# Altium schematic symbol library HANDS-FREEE-PcbLib-V1.11.SchLib: 137 symbols (part 2 of 2)
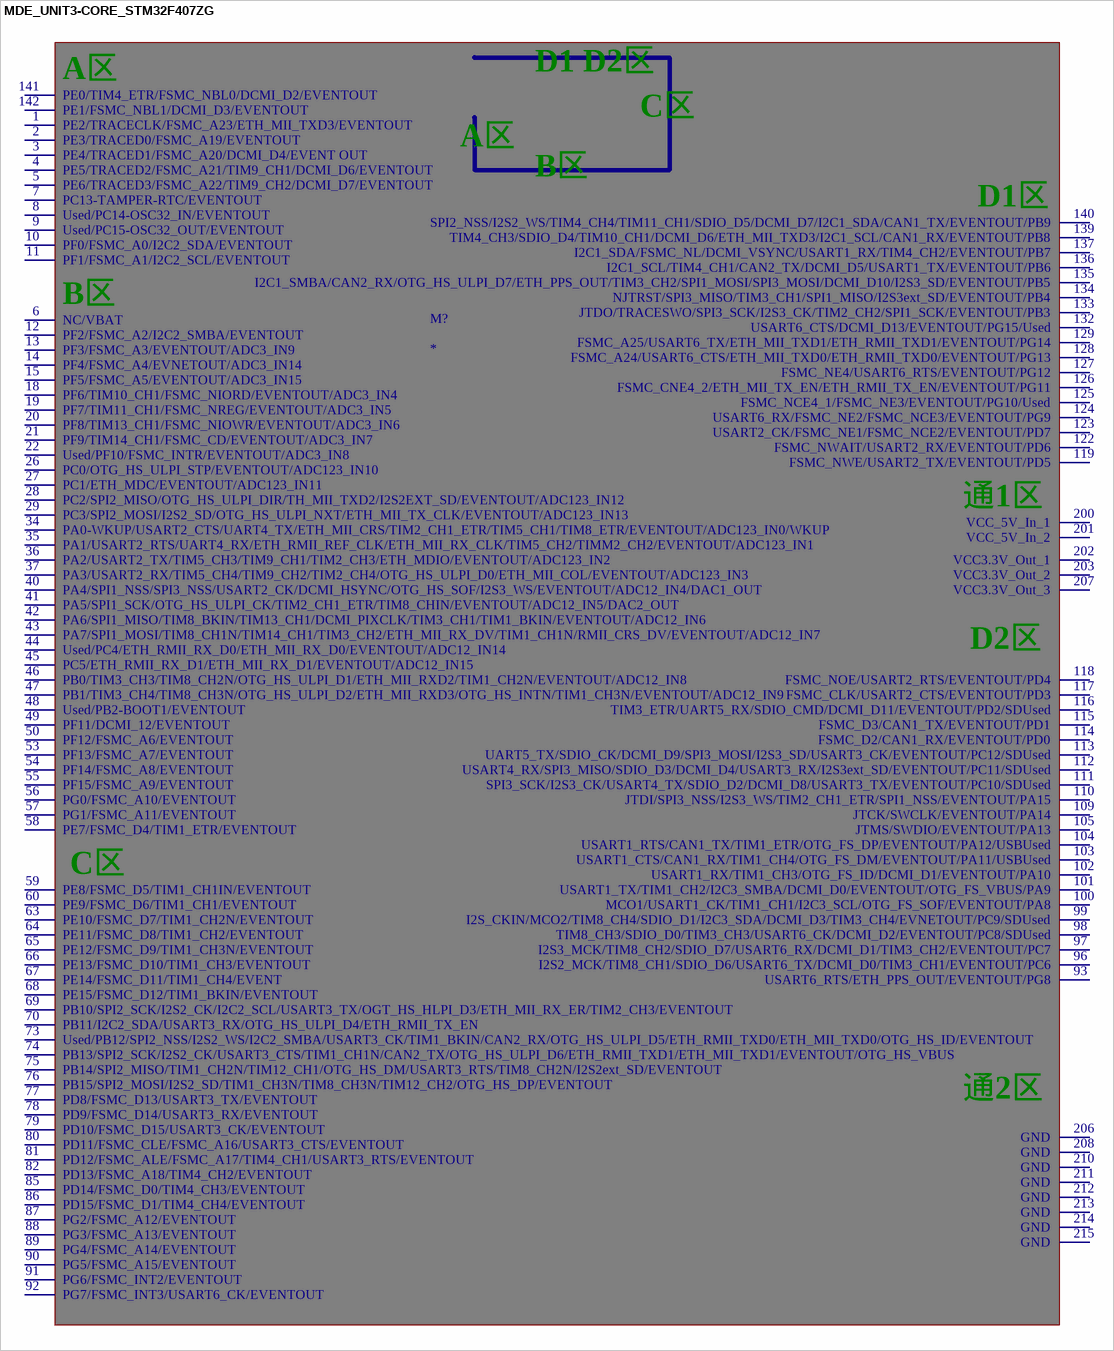
[diagram p8: symbol MDE_UNIT3-CORE_STM32F407ZG]

## MDE_UNIT3-CORE_STM32F407ZG
designator M?
直插型 核心板模块 由三个排母座组成
footprint MDE_UNIT3-CORE_STM32F407ZG
pins: 1 PE2/TRACECLK/FSMC_A23/ETH_MII_TXD3/EVENTOUT, 2 PE3/TRACED0/FSMC_A19/EVENTOUT, 3 PE4/TRACED1/FSMC_A20/DCMI_D4/EVENT OUT, 4 PE5/TRACED2/FSMC_A21/TIM9_CH1/DCMI_D6/EVENTOUT, 5 PE6/TRACED3/FSMC_A22/TIM9_CH2/DCMI_D7/EVENTOUT, 6 NC/VBAT, 7 PC13-TAMPER-RTC/EVENTOUT, 8 Used/PC14-OSC32_IN/EVENTOUT, 9 Used/PC15-OSC32_OUT/EVENTOUT, 10 PF0/FSMC_A0/I2C2_SDA/EVENTOUT, 11 PF1/FSMC_A1/I2C2_SCL/EVENTOUT, 12 PF2/FSMC_A2/I2C2_SMBA/EVENTOUT, 13 PF3/FSMC_A3/EVENTOUT/ADC3_IN9, 14 PF4/FSMC_A4/EVNETOUT/ADC3_IN14, 15 PF5/FSMC_A5/EVENTOUT/ADC3_IN15, 18 PF6/TIM10_CH1/FSMC_NIORD/EVENTOUT/ADC3_IN4, 19 PF7/TIM11_CH1/FSMC_NREG/EVENTOUT/ADC3_IN5, 20 PF8/TIM13_CH1/FSMC_NIOWR/EVENTOUT/ADC3_IN6, 21 PF9/TIM14_CH1/FSMC_CD/EVENTOUT/ADC3_IN7, 22 Used/PF10/FSMC_INTR/EVENTOUT/ADC3_IN8, 26 PC0/OTG_HS_ULPI_STP/EVENTOUT/ADC123_IN10, 27 PC1/ETH_MDC/EVENTOUT/ADC123_IN11, 28 PC2/SPI2_MISO/OTG_HS_ULPI_DIR/TH_MII_TXD2/I2S2EXT_SD/EVENTOUT/ADC123_IN12, 29 PC3/SPI2_MOSI/I2S2_SD/OTG_HS_ULPI_NXT/ETH_MII_TX_CLK/EVENTOUT/ADC123_IN13, 34 PA0-WKUP/USART2_CTS/UART4_TX/ETH_MII_CRS/TIM2_CH1_ETR/TIM5_CH1/TIM8_ETR/EVENTOUT/ADC123_IN0/WKUP, 35 PA1/USART2_RTS/UART4_RX/ETH_RMII_REF_CLK/ETH_MII_RX_CLK/TIM5_CH2/TIMM2_CH2/EVENTOUT/ADC123_IN1, 36 PA2/USART2_TX/TIM5_CH3/TIM9_CH1/TIM2_CH3/ETH_MDIO/EVENTOUT/ADC123_IN2, 37 PA3/USART2_RX/TIM5_CH4/TIM9_CH2/TIM2_CH4/OTG_HS_ULPI_D0/ETH_MII_COL/EVENTOUT/ADC123_IN3, 40 PA4/SPI1_NSS/SPI3_NSS/USART2_CK/DCMI_HSYNC/OTG_HS_SOF/I2S3_WS/EVENTOUT/ADC12_IN4/DAC1_OUT, 41 PA5/SPI1_SCK/OTG_HS_ULPI_CK/TIM2_CH1_ETR/TIM8_CHIN/EVENTOUT/ADC12_IN5/DAC2_OUT, 42 PA6/SPI1_MISO/TIM8_BKIN/TIM13_CH1/DCMI_PIXCLK/TIM3_CH1/TIM1_BKIN/EVENTOUT/ADC12_IN6, 43 PA7/SPI1_MOSI/TIM8_CH1N/TIM14_CH1/TIM3_CH2/ETH_MII_RX_DV/TIM1_CH1N/RMII_CRS_DV/EVENTOUT/ADC12_IN7, 44 Used/PC4/ETH_RMII_RX_D0/ETH_MII_RX_D0/EVENTOUT/ADC12_IN14, 45 PC5/ETH_RMII_RX_D1/ETH_MII_RX_D1/EVENTOUT/ADC12_IN15, 46 PB0/TIM3_CH3/TIM8_CH2N/OTG_HS_ULPI_D1/ETH_MII_RXD2/TIM1_CH2N/EVENTOUT/ADC12_IN8, 47 PB1/TIM3_CH4/TIM8_CH3N/OTG_HS_ULPI_D2/ETH_MII_RXD3/OTG_HS_INTN/TIM1_CH3N/EVENTOUT/ADC12_IN9, 48 Used/PB2-BOOT1/EVENTOUT, 49 PF11/DCMI_12/EVENTOUT, 50 PF12/FSMC_A6/EVENTOUT, 53 PF13/FSMC_A7/EVENTOUT, 54 PF14/FSMC_A8/EVENTOUT, 55 PF15/FSMC_A9/EVENTOUT, 56 PG0/FSMC_A10/EVENTOUT, 57 PG1/FSMC_A11/EVENTOUT, 58 PE7/FSMC_D4/TIM1_ETR/EVENTOUT, 59 PE8/FSMC_D5/TIM1_CH1IN/EVENTOUT, 60 PE9/FSMC_D6/TIM1_CH1/EVENTOUT, 63 PE10/FSMC_D7/TIM1_CH2N/EVENTOUT, 64 PE11/FSMC_D8/TIM1_CH2/EVENTOUT, 65 PE12/FSMC_D9/TIM1_CH3N/EVENTOUT, 66 PE13/FSMC_D10/TIM1_CH3/EVENTOUT, 67 PE14/FSMC_D11/TIM1_CH4/EVENT, 68 PE15/FSMC_D12/TIM1_BKIN/EVENTOUT, 69 PB10/SPI2_SCK/I2S2_CK/I2C2_SCL/USART3_TX/OGT_HS_HLPI_D3/ETH_MII_RX_ER/TIM2_CH3/EVENTOUT, 70 PB11/I2C2_SDA/USART3_RX/OTG_HS_ULPI_D4/ETH_RMII_TX_EN, 73 Used/PB12/SPI2_NSS/I2S2_WS/I2C2_SMBA/USART3_CK/TIM1_BKIN/CAN2_RX/OTG_HS_ULPI_D5/ETH_RMII_TXD0/ETH_MII_TXD0/OTG_HS_ID/EVENTOUT, 74 PB13/SPI2_SCK/I2S2_CK/USART3_CTS/TIM1_CH1N/CAN2_TX/OTG_HS_ULPI_D6/ETH_RMII_TXD1/ETH_MII_TXD1/EVENTOUT/OTG_HS_VBUS, 75 PB14/SPI2_MISO/TIM1_CH2N/TIM12_CH1/OTG_HS_DM/USART3_RTS/TIM8_CH2N/I2S2ext_SD/EVENTOUT, 76 PB15/SPI2_MOSI/I2S2_SD/TIM1_CH3N/TIM8_CH3N/TIM12_CH2/OTG_HS_DP/EVENTOUT, 77 PD8/FSMC_D13/USART3_TX/EVENTOUT, 78 PD9/FSMC_D14/USART3_RX/EVENTOUT, 79 PD10/FSMC_D15/USART3_CK/EVENTOUT, 80 PD11/FSMC_CLE/FSMC_A16/USART3_CTS/EVENTOUT, 81 PD12/FSMC_ALE/FSMC_A17/TIM4_CH1/USART3_RTS/EVENTOUT, 82 PD13/FSMC_A18/TIM4_CH2/EVENTOUT, 85 PD14/FSMC_D0/TIM4_CH3/EVENTOUT, 86 PD15/FSMC_D1/TIM4_CH4/EVENTOUT, 87 PG2/FSMC_A12/EVENTOUT, 88 PG3/FSMC_A13/EVENTOUT, 89 PG4/FSMC_A14/EVENTOUT, 90 PG5/FSMC_A15/EVENTOUT, 91 PG6/FSMC_INT2/EVENTOUT, 92 PG7/FSMC_INT3/USART6_CK/EVENTOUT, 93 USART6_RTS/ETH_PPS_OUT/EVENTOUT/PG8, 96 I2S2_MCK/TIM8_CH1/SDIO_D6/USART6_TX/DCMI_D0/TIM3_CH1/EVENTOUT/PC6, 97 I2S3_MCK/TIM8_CH2/SDIO_D7/USART6_RX/DCMI_D1/TIM3_CH2/EVENTOUT/PC7, 98 TIM8_CH3/SDIO_D0/TIM3_CH3/USART6_CK/DCMI_D2/EVENTOUT/PC8/SDUsed, 99 I2S_CKIN/MCO2/TIM8_CH4/SDIO_D1/I2C3_SDA/DCMI_D3/TIM3_CH4/EVNETOUT/PC9/SDUsed, 100 MCO1/USART1_CK/TIM1_CH1/I2C3_SCL/OTG_FS_SOF/EVENTOUT/PA8, 101 USART1_TX/TIM1_CH2/I2C3_SMBA/DCMI_D0/EVENTOUT/OTG_FS_VBUS/PA9, 102 USART1_RX/TIM1_CH3/OTG_FS_ID/DCMI_D1/EVENTOUT/PA10, 103 USART1_CTS/CAN1_RX/TIM1_CH4/OTG_FS_DM/EVENTOUT/PA11/USBUsed, 104 USART1_RTS/CAN1_TX/TIM1_ETR/OTG_FS_DP/EVENTOUT/PA12/USBUsed, 105 JTMS/SWDIO/EVENTOUT/PA13, 109 JTCK/SWCLK/EVENTOUT/PA14, 110 JTDI/SPI3_NSS/I2S3_WS/TIM2_CH1_ETR/SPI1_NSS/EVENTOUT/PA15, 111 SPI3_SCK/I2S3_CK/USART4_TX/SDIO_D2/DCMI_D8/USART3_TX/EVENTOUT/PC10/SDUsed, 112 USART4_RX/SPI3_MISO/SDIO_D3/DCMI_D4/USART3_RX/I2S3ext_SD/EVENTOUT/PC11/SDUsed, 113 UART5_TX/SDIO_CK/DCMI_D9/SPI3_MOSI/I2S3_SD/USART3_CK/EVENTOUT/PC12/SDUsed, 114 FSMC_D2/CAN1_RX/EVENTOUT/PD0, 115 FSMC_D3/CAN1_TX/EVENTOUT/PD1, 116 TIM3_ETR/UART5_RX/SDIO_CMD/DCMI_D11/EVENTOUT/PD2/SDUsed, 117 FSMC_CLK/USART2_CTS/EVENTOUT/PD3, 118 FSMC_NOE/USART2_RTS/EVENTOUT/PD4, 119 FSMC_NWE/USART2_TX/EVENTOUT/PD5, 122 FSMC_NWAIT/USART2_RX/EVENTOUT/PD6, 123 USART2_CK/FSMC_NE1/FSMC_NCE2/EVENTOUT/PD7, 124 USART6_RX/FSMC_NE2/FSMC_NCE3/EVENTOUT/PG9, 125 FSMC_NCE4_1/FSMC_NE3/EVENTOUT/PG10/Used, 126 FSMC_CNE4_2/ETH_MII_TX_EN/ETH_RMII_TX_EN/EVENTOUT/PG11, 127 FSMC_NE4/USART6_RTS/EVENTOUT/PG12, 128 FSMC_A24/USART6_CTS/ETH_MII_TXD0/ETH_RMII_TXD0/EVENTOUT/PG13, 129 FSMC_A25/USART6_TX/ETH_MII_TXD1/ETH_RMII_TXD1/EVENTOUT/PG14, 132 USART6_CTS/DCMI_D13/EVENTOUT/PG15/Used, 133 JTDO/TRACESWO/SPI3_SCK/I2S3_CK/TIM2_CH2/SPI1_SCK/EVENTOUT/PB3, 134 NJTRST/SPI3_MISO/TIM3_CH1/SPI1_MISO/I2S3ext_SD/EVENTOUT/PB4, 135 I2C1_SMBA/CAN2_RX/OTG_HS_ULPI_D7/ETH_PPS_OUT/TIM3_CH2/SPI1_MOSI/SPI3_MOSI/DCMI_D10/I2S3_SD/EVENTOUT/PB5, 136 I2C1_SCL/TIM4_CH1/CAN2_TX/DCMI_D5/USART1_TX/EVENTOUT/PB6, 137 I2C1_SDA/FSMC_NL/DCMI_VSYNC/USART1_RX/TIM4_CH2/EVENTOUT/PB7, 139 TIM4_CH3/SDIO_D4/TIM10_CH1/DCMI_D6/ETH_MII_TXD3/I2C1_SCL/CAN1_RX/EVENTOUT/PB8, 140 SPI2_NSS/I2S2_WS/TIM4_CH4/TIM11_CH1/SDIO_D5/DCMI_D7/I2C1_SDA/CAN1_TX/EVENTOUT/PB9, 141 PE0/TIM4_ETR/FSMC_NBL0/DCMI_D2/EVENTOUT, 142 PE1/FSMC_NBL1/DCMI_D3/EVENTOUT, 200 VCC_5V_In_1, 201 VCC_5V_In_2, 202 VCC3.3V_Out_1, 203 VCC3.3V_Out_2, 206 GND, 207 VCC3.3V_Out_3, 208 GND, 210 GND, 211 GND, 212 GND, 213 GND, 214 GND, 215 GND
text: D1 D2区; A区; C区; B区; D1区; 通1区; D2区; 通2区